# EAGLE library part ESPFLASH (library innove-con-standard)
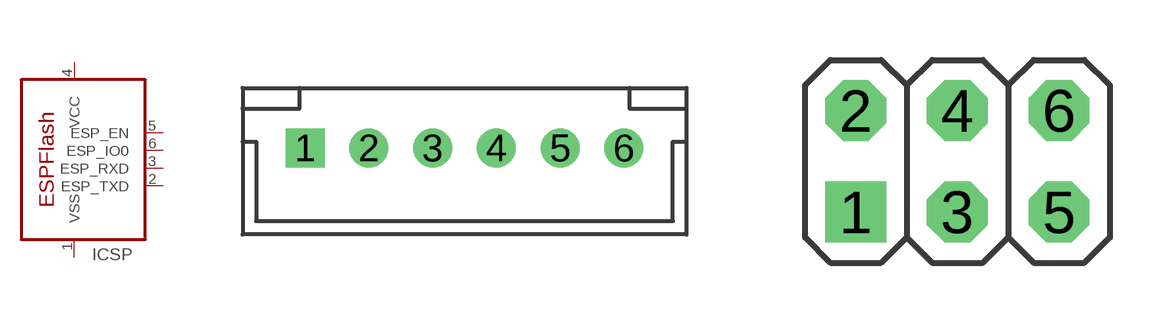
[diagram p0: symbol with the pads of B6B-XH-A; footprints B6B-XH-A, 2X03]

Designator prefix ICSP

## ESPFLASH-1X6-XH  [B6B-XH-A]
1  VSS  pwr
2  ESP_TXD  pas
3  ESP_RXD  pas
4  VCC  pwr
5  ESP_EN  pas
6  ESP_IO0  pas

## ESPFLASH-2X3  [2X03]
1  ESP_EN  pas
2  VCC  pwr
3  ESP_TXD  pas
4  VSS  pwr
5  ESP_RXD  pas
6  ESP_IO0  pas

## Footprint B6B-XH-A (pad centres in mm)
drill 1.016 square: 1 -6.25,0
drill 1.016: 2 -3.75,0; 3 -1.25,0; 4 1.25,0; 5 3.75,0; 6 6.25,0

## Footprint 2X03 (pad centres in mm)
PIN HEADER
drill 1.016 square: 1 -2.54,-1.27
drill 1.016 octagon: 2 -2.54,1.27; 3 0,-1.27; 4 0,1.27; 5 2.54,-1.27; 6 2.54,1.27